# Altium footprint library Molex Microfit.PCBLIB: 194 footprints (part 12 of 13)
Each footprint in its own frame and in the unit in brackets; x right, y up, seen from the top. Pads: shape width x height; smd on the part's side, far side on the other; paste and mask are expansions set on the pad; w line width, h text height; cw(c..) or ccw(c..) is an arc to the next point about the centre after c.
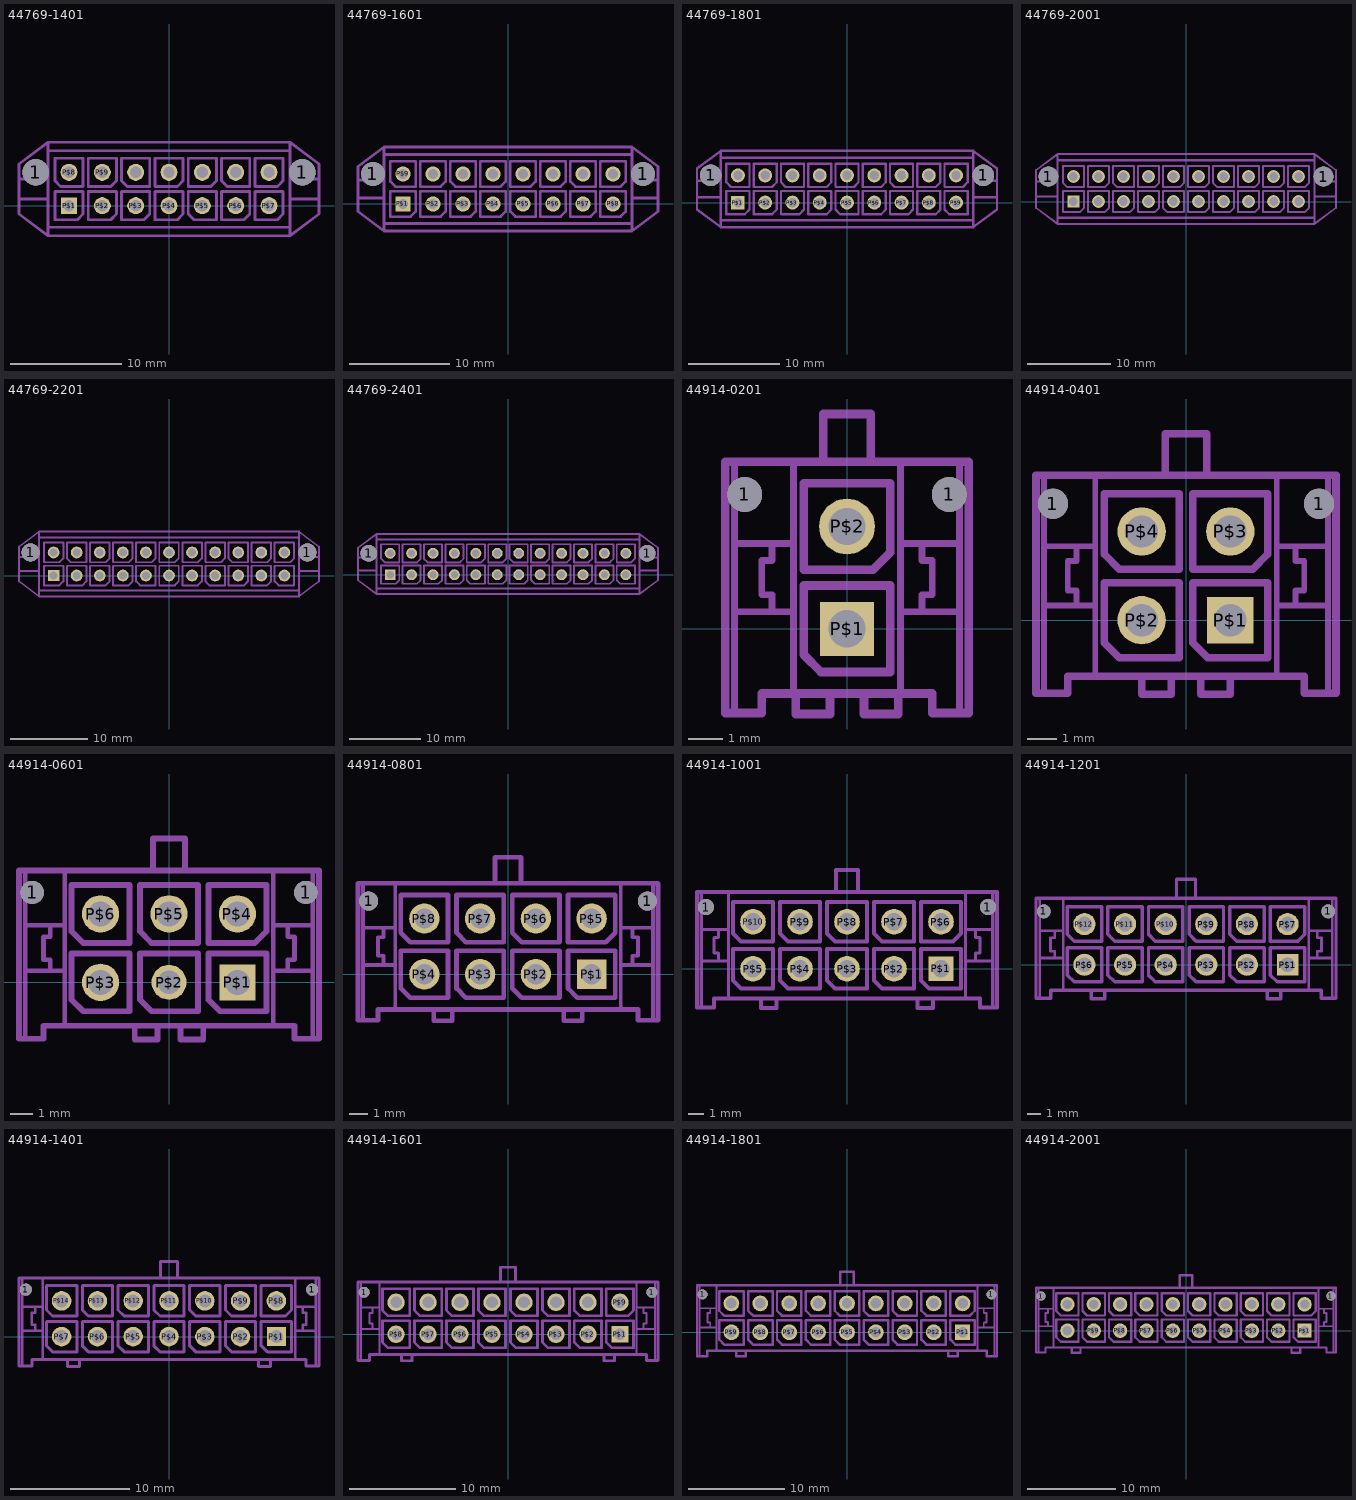
[diagram p11: the footprints below, top view; thin cyan lines are the x and y axes]

## 44769-1401 [mm]
pads (16):
  round 2.36 hole 2.36 unplated: 1(-12,3) 1(12,3)
  rect 1.482x1.482 / inner rect 1.524x1.524 / far side rect 1.482x1.482 hole 1.02: P$1(-9,0)
  round 1.53 / inner round 1.524 / far side round 1.53 hole 1.02: P$2(-6,0) P$3(-3,0) P$4(0,0) P$5(3,0) P$6(6,0) P$7(9,0) P$8(-9,3) P$9(-6,3) P$10(-3,3) P$11(0,3) P$12(3,3) P$13(6,3) P$14(9,3)
Mechanical 22:
  lines w0.254: -13.5,0.6 -10.9,0.6 ; -13.5,0.6 -13.5,2.4 ; -13.5,0.6 -13.5,-0.75 -10.9,-2.7 ; -13.5,2.4 -10.9,2.4 ; -13.5,2.4 -13.5,3.75 -10.9,5.7 ; -10.9,-2.7 -10.9,-1.95 ; -10.9,-2.7 10.9,-2.7 ; -10.9,-1.95 10.9,-1.95 ; -10.9,-1.95 -10.9,0.6 ; -10.9,0.6 -10.9,2.4 ; -10.9,2.4 -10.9,4.95 ; -10.9,4.95 10.9,4.95 ; -10.9,4.95 -10.9,5.7 ; -10.9,5.7 10.9,5.7 ; 10.9,-2.7 10.9,-1.95 ; 10.9,-2.7 13.5,-0.75 13.5,0.6 ; 10.9,-1.95 10.9,0.6 ; 10.9,0.6 13.5,0.6 ; 10.9,0.6 10.9,2.4 ; 10.9,2.4 13.5,2.4 ; 10.9,2.4 10.9,4.95 ; 10.9,4.95 10.9,5.7 ; 10.9,5.7 13.5,3.75 13.5,2.4 ; 13.5,0.6 13.5,2.4 ; -10.27,-1.27 -8.238,-1.27 -7.73,-0.762 -7.73,1.27 -10.27,1.27 -10.27,-1.27 ; -10.27,2.238 -9.762,1.73 -7.73,1.73 -7.73,4.27 -10.27,4.27 -10.27,2.238 ; -7.27,-1.27 -5.238,-1.27 -4.73,-0.762 -4.73,1.27 -7.27,1.27 -7.27,-1.27 ; -7.27,1.73 -5.238,1.73 -4.73,2.238 -4.73,4.27 -7.27,4.27 -7.27,1.73 ; -4.27,-1.27 -2.238,-1.27 -1.73,-0.762 -1.73,1.27 -4.27,1.27 -4.27,-1.27 ; -4.27,2.238 -3.762,1.73 -1.73,1.73 -1.73,4.27 -4.27,4.27 -4.27,2.238 ; -1.27,-1.27 0.762,-1.27 1.27,-0.762 1.27,1.27 -1.27,1.27 -1.27,-1.27 ; -1.27,1.73 0.762,1.73 1.27,2.238 1.27,4.27 -1.27,4.27 -1.27,1.73 ; 1.73,-0.762 2.238,-1.27 4.27,-1.27 4.27,1.27 1.73,1.27 1.73,-0.762 ; 1.73,1.73 3.762,1.73 4.27,2.238 4.27,4.27 1.73,4.27 1.73,1.73 ; 4.73,-1.27 6.762,-1.27 7.27,-0.762 7.27,1.27 4.73,1.27 4.73,-1.27 ; 4.73,2.238 5.238,1.73 7.27,1.73 7.27,4.27 4.73,4.27 4.73,2.238 ; 7.73,-1.27 9.762,-1.27 10.27,-0.762 10.27,1.27 7.73,1.27 7.73,-1.27 ; 7.73,1.73 9.762,1.73 10.27,2.238 10.27,4.27 7.73,4.27 7.73,1.73

## 44769-1601 [mm]
pads (18):
  round 2.36 hole 2.36 unplated: 1(-13.5,3) 1(13.5,3)
  rect 1.482x1.482 / inner rect 1.524x1.524 / far side rect 1.482x1.482 hole 1.02: P$1(-10.5,0)
  round 1.53 / inner round 1.524 / far side round 1.53 hole 1.02: P$2(-7.5,0) P$3(-4.5,0) P$4(-1.5,0) P$5(1.5,0) P$6(4.5,0) P$7(7.5,0) P$8(10.5,0) P$9(-10.5,3) P$10(-7.5,3) P$11(-4.5,3) P$12(-1.5,3) P$13(1.5,3) P$14(4.5,3) P$15(7.5,3) P$16(10.5,3)
Mechanical 22:
  lines w0.254: -15,0.6 -12.4,0.6 ; -15,0.6 -15,2.4 ; -15,0.6 -15,-0.75 -12.4,-2.7 ; -15,2.4 -12.4,2.4 ; -15,2.4 -15,3.75 -12.4,5.7 ; -12.4,-2.7 -12.4,-1.95 ; -12.4,-2.7 12.4,-2.7 ; -12.4,-1.95 12.4,-1.95 ; -12.4,-1.95 -12.4,0.6 ; -12.4,0.6 -12.4,2.4 ; -12.4,2.4 -12.4,4.95 ; -12.4,4.95 12.4,4.95 ; -12.4,4.95 -12.4,5.7 ; -12.4,5.7 12.4,5.7 ; 12.4,-2.7 12.4,-1.95 ; 12.4,-2.7 15,-0.75 15,0.6 ; 12.4,-1.95 12.4,0.6 ; 12.4,0.6 15,0.6 ; 12.4,0.6 12.4,2.4 ; 12.4,2.4 15,2.4 ; 12.4,2.4 12.4,4.95 ; 12.4,4.95 12.4,5.7 ; 12.4,5.7 15,3.75 15,2.4 ; 15,0.6 15,2.4 ; -11.77,-1.27 -9.738,-1.27 -9.23,-0.762 -9.23,1.27 -11.77,1.27 -11.77,-1.27 ; -11.77,2.238 -11.262,1.73 -9.23,1.73 -9.23,4.27 -11.77,4.27 -11.77,2.238 ; -8.77,-1.27 -6.738,-1.27 -6.23,-0.762 -6.23,1.27 -8.77,1.27 -8.77,-1.27 ; -8.77,1.73 -6.738,1.73 -6.23,2.238 -6.23,4.27 -8.77,4.27 -8.77,1.73 ; -5.77,-1.27 -3.738,-1.27 -3.23,-0.762 -3.23,1.27 -5.77,1.27 -5.77,-1.27 ; -5.77,2.238 -5.262,1.73 -3.23,1.73 -3.23,4.27 -5.77,4.27 -5.77,2.238 ; -2.77,-1.27 -0.738,-1.27 -0.23,-0.762 -0.23,1.27 -2.77,1.27 -2.77,-1.27 ; -2.77,1.73 -0.738,1.73 -0.23,2.238 -0.23,4.27 -2.77,4.27 -2.77,1.73 ; 0.23,-0.762 0.738,-1.27 2.77,-1.27 2.77,1.27 0.23,1.27 0.23,-0.762 ; 0.23,1.73 2.262,1.73 2.77,2.238 2.77,4.27 0.23,4.27 0.23,1.73 ; 3.23,-1.27 5.262,-1.27 5.77,-0.762 5.77,1.27 3.23,1.27 3.23,-1.27 ; 3.23,1.73 5.262,1.73 5.77,2.238 5.77,4.27 3.23,4.27 3.23,1.73 ; 6.23,-1.27 8.262,-1.27 8.77,-0.762 8.77,1.27 6.23,1.27 6.23,-1.27 ; 6.23,2.238 6.738,1.73 8.77,1.73 8.77,4.27 6.23,4.27 6.23,2.238 ; 9.23,-1.27 11.262,-1.27 11.77,-0.762 11.77,1.27 9.23,1.27 9.23,-1.27 ; 9.23,1.73 11.262,1.73 11.77,2.238 11.77,4.27 9.23,4.27 9.23,1.73

## 44769-1801 [mm]
pads (20):
  round 2.36 hole 2.36 unplated: 1(-15,3) 1(15,3)
  rect 1.482x1.482 / inner rect 1.524x1.524 / far side rect 1.482x1.482 hole 1.02: P$1(-12,0)
  round 1.53 / inner round 1.524 / far side round 1.53 hole 1.02: P$2(-9,0) P$3(-6,0) P$4(-3,0) P$5(0,0) P$6(3,0) P$7(6,0) P$8(9,0) P$9(12,0) P$10(-12,3) P$11(-9,3) P$12(-6,3) P$13(-3,3) P$14(0,3) P$15(3,3) P$16(6,3) P$17(9,3) P$18(12,3)
Mechanical 22:
  lines w0.254: -16.5,0.6 -13.9,0.6 ; -16.5,0.6 -16.5,2.4 ; -16.5,0.6 -16.5,-0.75 -13.9,-2.7 ; -16.5,2.4 -13.9,2.4 ; -16.5,2.4 -16.5,3.75 -13.9,5.7 ; -13.9,-2.7 -13.9,-1.95 ; -13.9,-2.7 13.9,-2.7 ; -13.9,-1.95 13.9,-1.95 ; -13.9,-1.95 -13.9,0.6 ; -13.9,0.6 -13.9,2.4 ; -13.9,2.4 -13.9,4.95 ; -13.9,4.95 13.9,4.95 ; -13.9,4.95 -13.9,5.7 ; -13.9,5.7 13.9,5.7 ; 13.9,-2.7 13.9,-1.95 ; 13.9,-2.7 16.5,-0.75 16.5,0.6 ; 13.9,-1.95 13.9,0.6 ; 13.9,0.6 16.5,0.6 ; 13.9,0.6 13.9,2.4 ; 13.9,2.4 16.5,2.4 ; 13.9,2.4 13.9,4.95 ; 13.9,4.95 13.9,5.7 ; 13.9,5.7 16.5,3.75 16.5,2.4 ; 16.5,0.6 16.5,2.4 ; -13.27,-1.27 -11.238,-1.27 -10.73,-0.762 -10.73,1.27 -13.27,1.27 -13.27,-1.27 ; -13.27,2.238 -12.762,1.73 -10.73,1.73 -10.73,4.27 -13.27,4.27 -13.27,2.238 ; -10.27,-1.27 -8.238,-1.27 -7.73,-0.762 -7.73,1.27 -10.27,1.27 -10.27,-1.27 ; -10.27,1.73 -8.238,1.73 -7.73,2.238 -7.73,4.27 -10.27,4.27 -10.27,1.73 ; -7.27,-1.27 -5.238,-1.27 -4.73,-0.762 -4.73,1.27 -7.27,1.27 -7.27,-1.27 ; -7.27,2.238 -6.762,1.73 -4.73,1.73 -4.73,4.27 -7.27,4.27 -7.27,2.238 ; -4.27,-1.27 -2.238,-1.27 -1.73,-0.762 -1.73,1.27 -4.27,1.27 -4.27,-1.27 ; -4.27,1.73 -2.238,1.73 -1.73,2.238 -1.73,4.27 -4.27,4.27 -4.27,1.73 ; -1.27,-0.762 -0.762,-1.27 1.27,-1.27 1.27,1.27 -1.27,1.27 -1.27,-0.762 ; -1.27,1.73 0.762,1.73 1.27,2.238 1.27,4.27 -1.27,4.27 -1.27,1.73 ; 1.73,-1.27 3.762,-1.27 4.27,-0.762 4.27,1.27 1.73,1.27 1.73,-1.27 ; 1.73,1.73 3.762,1.73 4.27,2.238 4.27,4.27 1.73,4.27 1.73,1.73 ; 4.73,-1.27 6.762,-1.27 7.27,-0.762 7.27,1.27 4.73,1.27 4.73,-1.27 ; 4.73,2.238 5.238,1.73 7.27,1.73 7.27,4.27 4.73,4.27 4.73,2.238 ; 7.73,-1.27 9.762,-1.27 10.27,-0.762 10.27,1.27 7.73,1.27 7.73,-1.27 ; 7.73,1.73 9.762,1.73 10.27,2.238 10.27,4.27 7.73,4.27 7.73,1.73 ; 10.73,-0.762 11.238,-1.27 13.27,-1.27 13.27,1.27 10.73,1.27 10.73,-0.762 ; 10.73,1.73 12.762,1.73 13.27,2.238 13.27,4.27 10.73,4.27 10.73,1.73

## 44769-2001 [mm]
pads (22):
  round 2.36 hole 2.36 unplated: 1(-16.5,3) 1(16.5,3)
  rect 1.482x1.482 / inner rect 1.524x1.524 / far side rect 1.482x1.482 hole 1.02: P$1(-13.5,0)
  round 1.53 / inner round 1.524 / far side round 1.53 hole 1.02: P$2(-10.5,0) P$3(-7.5,0) P$4(-4.5,0) P$5(-1.5,0) P$6(1.5,0) P$7(4.5,0) P$8(7.5,0) P$9(10.5,0) P$10(13.5,0) P$11(-13.5,3) P$12(-10.5,3) P$13(-7.5,3) P$14(-4.5,3) P$15(-1.5,3) P$16(1.5,3) P$17(4.5,3) P$18(7.5,3) P$19(10.5,3) P$20(13.5,3)
Mechanical 22:
  lines w0.254: -18,0.6 -15.4,0.6 ; -18,0.6 -18,2.4 ; -18,0.6 -18,-0.75 -15.4,-2.7 ; -18,2.4 -15.4,2.4 ; -18,2.4 -18,3.75 -15.4,5.7 ; -15.4,-2.7 -15.4,-1.95 ; -15.4,-2.7 15.4,-2.7 ; -15.4,-1.95 15.4,-1.95 ; -15.4,-1.95 -15.4,0.6 ; -15.4,0.6 -15.4,2.4 ; -15.4,2.4 -15.4,4.95 ; -15.4,4.95 15.4,4.95 ; -15.4,4.95 -15.4,5.7 ; -15.4,5.7 15.4,5.7 ; 15.4,-2.7 15.4,-1.95 ; 15.4,-2.7 18,-0.75 18,0.6 ; 15.4,-1.95 15.4,0.6 ; 15.4,0.6 18,0.6 ; 15.4,0.6 15.4,2.4 ; 15.4,2.4 18,2.4 ; 15.4,2.4 15.4,4.95 ; 15.4,4.95 15.4,5.7 ; 15.4,5.7 18,3.75 18,2.4 ; 18,0.6 18,2.4 ; -14.77,-1.27 -12.738,-1.27 -12.23,-0.762 -12.23,1.27 -14.77,1.27 -14.77,-1.27 ; -14.77,2.238 -14.262,1.73 -12.23,1.73 -12.23,4.27 -14.77,4.27 -14.77,2.238 ; -11.77,-1.27 -9.738,-1.27 -9.23,-0.762 -9.23,1.27 -11.77,1.27 -11.77,-1.27 ; -11.77,1.73 -9.738,1.73 -9.23,2.238 -9.23,4.27 -11.77,4.27 -11.77,1.73 ; -8.77,-1.27 -6.738,-1.27 -6.23,-0.762 -6.23,1.27 -8.77,1.27 -8.77,-1.27 ; -8.77,2.238 -8.262,1.73 -6.23,1.73 -6.23,4.27 -8.77,4.27 -8.77,2.238 ; -5.77,-1.27 -3.738,-1.27 -3.23,-0.762 -3.23,1.27 -5.77,1.27 -5.77,-1.27 ; -5.77,1.73 -3.738,1.73 -3.23,2.238 -3.23,4.27 -5.77,4.27 -5.77,1.73 ; -2.77,-0.762 -2.262,-1.27 -0.23,-1.27 -0.23,1.27 -2.77,1.27 -2.77,-0.762 ; -2.77,1.73 -0.738,1.73 -0.23,2.238 -0.23,4.27 -2.77,4.27 -2.77,1.73 ; 0.23,-1.27 2.262,-1.27 2.77,-0.762 2.77,1.27 0.23,1.27 0.23,-1.27 ; 0.23,1.73 2.262,1.73 2.77,2.238 2.77,4.27 0.23,4.27 0.23,1.73 ; 3.23,-1.27 5.262,-1.27 5.77,-0.762 5.77,1.27 3.23,1.27 3.23,-1.27 ; 3.23,2.238 3.738,1.73 5.77,1.73 5.77,4.27 3.23,4.27 3.23,2.238 ; 6.23,-1.27 8.262,-1.27 8.77,-0.762 8.77,1.27 6.23,1.27 6.23,-1.27 ; 6.23,1.73 8.262,1.73 8.77,2.238 8.77,4.27 6.23,4.27 6.23,1.73 ; 9.23,-1.27 11.262,-1.27 11.77,-0.762 11.77,1.27 9.23,1.27 9.23,-1.27 ; 9.23,1.73 11.262,1.73 11.77,2.238 11.77,4.27 9.23,4.27 9.23,1.73 ; 12.23,-1.27 14.262,-1.27 14.77,-0.762 14.77,1.27 12.23,1.27 12.23,-1.27 ; 12.23,1.73 14.262,1.73 14.77,2.238 14.77,4.27 12.23,4.27 12.23,1.73

## 44769-2201 [mm]
pads (24):
  round 2.36 hole 2.36 unplated: 1(-18,3) 1(18,3)
  rect 1.482x1.482 / inner rect 1.524x1.524 / far side rect 1.482x1.482 hole 1.02: P$1(-15,0)
  round 1.53 / inner round 1.524 / far side round 1.53 hole 1.02: P$2(-12,0) P$3(-9,0) P$4(-6,0) P$5(-3,0) P$6(0,0) P$7(3,0) P$8(6,0) P$9(9,0) P$10(12,0) P$11(15,0) P$12(-15,3) P$13(-12,3) P$14(-9,3) P$15(-6,3) P$16(-3,3) P$17(0,3) P$18(3,3) P$19(6,3) P$20(9,3) P$21(12,3) P$22(15,3)
Mechanical 22:
  lines w0.254: -19.5,0.6 -16.9,0.6 ; -19.5,0.6 -19.5,2.4 ; -19.5,0.6 -19.5,-0.75 -16.9,-2.7 ; -19.5,2.4 -16.9,2.4 ; -19.5,2.4 -19.5,3.75 -16.9,5.7 ; -16.9,-2.7 -16.9,-1.95 ; -16.9,-2.7 16.9,-2.7 ; -16.9,-1.95 16.9,-1.95 ; -16.9,-1.95 -16.9,0.6 ; -16.9,0.6 -16.9,2.4 ; -16.9,2.4 -16.9,4.95 ; -16.9,4.95 16.9,4.95 ; -16.9,4.95 -16.9,5.7 ; -16.9,5.7 16.9,5.7 ; 16.9,-2.7 16.9,-1.95 ; 16.9,-2.7 19.5,-0.75 19.5,0.6 ; 16.9,-1.95 16.9,0.6 ; 16.9,0.6 19.5,0.6 ; 16.9,0.6 16.9,2.4 ; 16.9,2.4 19.5,2.4 ; 16.9,2.4 16.9,4.95 ; 16.9,4.95 16.9,5.7 ; 16.9,5.7 19.5,3.75 19.5,2.4 ; 19.5,0.6 19.5,2.4 ; -16.27,-1.27 -14.238,-1.27 -13.73,-0.762 -13.73,1.27 -16.27,1.27 -16.27,-1.27 ; -16.27,1.73 -14.238,1.73 -13.73,2.238 -13.73,4.27 -16.27,4.27 -16.27,1.73 ; -13.27,-1.27 -11.238,-1.27 -10.73,-0.762 -10.73,1.27 -13.27,1.27 -13.27,-1.27 ; -13.27,2.238 -12.762,1.73 -10.73,1.73 -10.73,4.27 -13.27,4.27 -13.27,2.238 ; -10.27,-1.27 -8.238,-1.27 -7.73,-0.762 -7.73,1.27 -10.27,1.27 -10.27,-1.27 ; -10.27,1.73 -8.238,1.73 -7.73,2.238 -7.73,4.27 -10.27,4.27 -10.27,1.73 ; -7.27,-1.27 -5.238,-1.27 -4.73,-0.762 -4.73,1.27 -7.27,1.27 -7.27,-1.27 ; -7.27,1.73 -5.238,1.73 -4.73,2.238 -4.73,4.27 -7.27,4.27 -7.27,1.73 ; -4.27,-0.762 -3.762,-1.27 -1.73,-1.27 -1.73,1.27 -4.27,1.27 -4.27,-0.762 ; -4.27,1.73 -2.238,1.73 -1.73,2.238 -1.73,4.27 -4.27,4.27 -4.27,1.73 ; -1.27,-1.27 0.762,-1.27 1.27,-0.762 1.27,1.27 -1.27,1.27 -1.27,-1.27 ; -1.27,1.73 0.762,1.73 1.27,2.238 1.27,4.27 -1.27,4.27 -1.27,1.73 ; 1.73,-1.27 3.762,-1.27 4.27,-0.762 4.27,1.27 1.73,1.27 1.73,-1.27 ; 1.73,1.73 3.762,1.73 4.27,2.238 4.27,4.27 1.73,4.27 1.73,1.73 ; 4.73,-0.762 5.238,-1.27 7.27,-1.27 7.27,1.27 4.73,1.27 4.73,-0.762 ; 4.73,1.73 6.762,1.73 7.27,2.238 7.27,4.27 4.73,4.27 4.73,1.73 ; 7.73,-1.27 9.762,-1.27 10.27,-0.762 10.27,1.27 7.73,1.27 7.73,-1.27 ; 7.73,2.238 8.238,1.73 10.27,1.73 10.27,4.27 7.73,4.27 7.73,2.238 ; 10.73,-1.27 12.762,-1.27 13.27,-0.762 13.27,1.27 10.73,1.27 10.73,-1.27 ; 10.73,1.73 12.762,1.73 13.27,2.238 13.27,4.27 10.73,4.27 10.73,1.73 ; 13.73,-0.762 14.238,-1.27 16.27,-1.27 16.27,1.27 13.73,1.27 13.73,-0.762 ; 13.73,1.73 15.762,1.73 16.27,2.238 16.27,4.27 13.73,4.27 13.73,1.73

## 44769-2401 [mm]
pads (26):
  round 2.36 hole 2.36 unplated: 1(-19.5,3) 1(19.5,3)
  rect 1.482x1.482 / inner rect 1.524x1.524 / far side rect 1.482x1.482 hole 1.02: P$1(-16.5,0)
  round 1.53 / inner round 1.524 / far side round 1.53 hole 1.02: P$2(-13.5,0) P$3(-10.5,0) P$4(-7.5,0) P$5(-4.5,0) P$6(-1.5,0) P$7(1.5,0) P$8(4.5,0) P$9(7.5,0) P$10(10.5,0) P$11(13.5,0) P$12(16.5,0) P$13(-16.5,3) P$14(-13.5,3) P$15(-10.5,3) P$16(-7.5,3) P$17(-4.5,3) P$18(-1.5,3) P$19(1.5,3) P$20(4.5,3) P$21(7.5,3) P$22(10.5,3) P$23(13.5,3) P$24(16.5,3)
Mechanical 22:
  lines w0.254: -21,0.6 -18.4,0.6 ; -21,0.6 -21,2.4 ; -21,0.6 -21,-0.75 -18.4,-2.7 ; -21,2.4 -18.4,2.4 ; -21,2.4 -21,3.75 -18.4,5.7 ; -18.4,-2.7 -18.4,-1.95 ; -18.4,-2.7 18.4,-2.7 ; -18.4,-1.95 18.4,-1.95 ; -18.4,-1.95 -18.4,0.6 ; -18.4,0.6 -18.4,2.4 ; -18.4,2.4 -18.4,4.95 ; -18.4,4.95 18.4,4.95 ; -18.4,4.95 -18.4,5.7 ; -18.4,5.7 18.4,5.7 ; 18.4,-2.7 18.4,-1.95 ; 18.4,-2.7 21,-0.75 21,0.6 ; 18.4,-1.95 18.4,0.6 ; 18.4,0.6 21,0.6 ; 18.4,0.6 18.4,2.4 ; 18.4,2.4 21,2.4 ; 18.4,2.4 18.4,4.95 ; 18.4,4.95 18.4,5.7 ; 18.4,5.7 21,3.75 21,2.4 ; 21,0.6 21,2.4 ; -17.77,-1.27 -15.738,-1.27 -15.23,-0.762 -15.23,1.27 -17.77,1.27 -17.77,-1.27 ; -17.77,2.238 -17.262,1.73 -15.23,1.73 -15.23,4.27 -17.77,4.27 -17.77,2.238 ; -14.77,-1.27 -12.738,-1.27 -12.23,-0.762 -12.23,1.27 -14.77,1.27 -14.77,-1.27 ; -14.77,1.73 -12.738,1.73 -12.23,2.238 -12.23,4.27 -14.77,4.27 -14.77,1.73 ; -11.77,-1.27 -9.738,-1.27 -9.23,-0.762 -9.23,1.27 -11.77,1.27 -11.77,-1.27 ; -11.77,2.238 -11.262,1.73 -9.23,1.73 -9.23,4.27 -11.77,4.27 -11.77,2.238 ; -8.77,-1.27 -6.738,-1.27 -6.23,-0.762 -6.23,1.27 -8.77,1.27 -8.77,-1.27 ; -8.77,1.73 -6.738,1.73 -6.23,2.238 -6.23,4.27 -8.77,4.27 -8.77,1.73 ; -5.77,-0.762 -5.262,-1.27 -3.23,-1.27 -3.23,1.27 -5.77,1.27 -5.77,-0.762 ; -5.77,1.73 -3.738,1.73 -3.23,2.238 -3.23,4.27 -5.77,4.27 -5.77,1.73 ; -2.77,-1.27 -0.738,-1.27 -0.23,-0.762 -0.23,1.27 -2.77,1.27 -2.77,-1.27 ; -2.77,1.73 -0.738,1.73 -0.23,2.238 -0.23,4.27 -2.77,4.27 -2.77,1.73 ; 0.23,-1.27 2.262,-1.27 2.77,-0.762 2.77,1.27 0.23,1.27 0.23,-1.27 ; 0.23,2.238 0.738,1.73 2.77,1.73 2.77,4.27 0.23,4.27 0.23,2.238 ; 3.23,-0.762 3.738,-1.27 5.77,-1.27 5.77,1.27 3.23,1.27 3.23,-0.762 ; 3.23,1.73 5.262,1.73 5.77,2.238 5.77,4.27 3.23,4.27 3.23,1.73 ; 6.23,-1.27 8.262,-1.27 8.77,-0.762 8.77,1.27 6.23,1.27 6.23,-1.27 ; 6.23,1.73 8.262,1.73 8.77,2.238 8.77,4.27 6.23,4.27 6.23,1.73 ; 9.23,-1.27 11.262,-1.27 11.77,-0.762 11.77,1.27 9.23,1.27 9.23,-1.27 ; 9.23,1.73 11.262,1.73 11.77,2.238 11.77,4.27 9.23,4.27 9.23,1.73 ; 12.23,-1.27 14.262,-1.27 14.77,-0.762 14.77,1.27 12.23,1.27 12.23,-1.27 ; 12.23,1.73 14.262,1.73 14.77,2.238 14.77,4.27 12.23,4.27 12.23,1.73 ; 15.23,-0.762 15.738,-1.27 17.77,-1.27 17.77,1.27 15.23,1.27 15.23,-0.762 ; 15.23,1.73 17.262,1.73 17.77,2.238 17.77,4.27 15.23,4.27 15.23,1.73
3D body "447692401.stp": height 13.61, standoff -3.39, extent -21,-2.168 21,6.232

## 44914-0201 [mm]
pads (4):
  round 1.02 hole 1.02 unplated: 1(-3,3.94) 1(3,3.94)
  rect 1.583x1.583 / inner rect 1.524x1.524 / far side rect 1.583x1.583 hole 1.09: P$1(0,0)
  round 1.635 / inner round 1.524 / far side round 1.635 hole 1.09: P$2(0,3)
Mechanical 22:
  lines w0.2: -3.3,-2.47 -3.3,0.5 ; -3.3,4.9 -3.3,2.5 ; -1.57,-1.9 -1.57,0.5 ; -1.57,4.9 -1.57,2.5 ; 1.57,-1.9 1.57,0.5 ; 1.57,4.9 1.57,2.5 ; 3.3,-2.47 3.3,0.5 ; 3.3,4.9 3.3,2.5 ; -3.3,0.5 -2.2,0.5 ; -3.3,0.5 -3.3,2.5 ; -3.3,2.5 -2.2,2.5 ; -2.2,0.5 -2.2,1 -2.5,1 -2.5,2 -2.2,2 -2.2,2.5 ; -2.2,0.5 -1.57,0.5 ; -2.2,2.5 -1.57,2.5 ; -1.57,0.5 -1.57,2.5 ; 1.57,0.5 2.2,0.5 ; 1.57,0.5 1.57,2.5 ; 1.57,2.5 2.2,2.5 ; 2.2,0.5 2.2,1 2.5,1 2.5,2 2.2,2 2.2,2.5 ; 2.2,0.5 3.3,0.5 ; 2.2,2.5 3.3,2.5 ; 3.3,0.5 3.3,2.5
  lines w0.254: -1.5,-1.9 -1.5,-2.5 -0.5,-2.5 -0.5,-1.9 ; -1.5,-1.9 -1.57,-1.9 -2.5,-1.9 -2.5,-2.47 -3.3,-2.47 -3.575,-2.47 -3.575,4.9 -3.3,4.9 -1.57,4.9 -0.7,4.9 ; -1.5,-1.9 -0.5,-1.9 ; -0.7,4.9 -0.7,6.3 0.7,6.3 0.7,4.9 ; -0.7,4.9 0.7,4.9 ; -0.5,-1.9 0.5,-1.9 ; 0.5,-1.9 0.5,-2.5 1.5,-2.5 1.5,-1.9 ; 0.5,-1.9 1.5,-1.9 ; 0.7,4.9 1.57,4.9 3.3,4.9 3.575,4.9 3.575,-2.47 3.3,-2.47 2.5,-2.47 2.5,-1.9 1.57,-1.9 1.5,-1.9 ; -1.27,-0.762 -0.762,-1.27 1.27,-1.27 1.27,1.27 -1.27,1.27 -1.27,-0.762
Mechanical 23:
  lines w0.254: -1.27,1.73 0.762,1.73 1.27,2.238 1.27,4.27 -1.27,4.27 -1.27,1.73

## 44914-0401 [mm]
pads (6):
  round 1.02 hole 1.02 unplated: 1(-4.5,3.94) 1(4.5,3.94)
  rect 1.583x1.583 / inner rect 1.524x1.524 / far side rect 1.583x1.583 hole 1.09: P$1(1.5,0)
  round 1.635 / inner round 1.524 / far side round 1.635 hole 1.09: P$2(-1.5,0) P$3(1.5,3) P$4(-1.5,3)
Mechanical 22:
  lines w0.2: -4.8,-2.47 -4.8,0.5 ; -4.8,4.9 -4.8,2.5 ; -3.07,-1.9 -3.07,0.5 ; -3.07,4.9 -3.07,2.5 ; 3.07,-1.9 3.07,0.5 ; 3.07,4.9 3.07,2.5 ; 4.8,-2.47 4.8,0.5 ; 4.8,4.9 4.8,2.5 ; -4.8,0.5 -3.7,0.5 ; -4.8,0.5 -4.8,2.5 ; -4.8,2.5 -3.7,2.5 ; -3.7,0.5 -3.7,1 -4,1 -4,2 -3.7,2 -3.7,2.5 ; -3.7,0.5 -3.07,0.5 ; -3.7,2.5 -3.07,2.5 ; -3.07,0.5 -3.07,2.5 ; 3.07,0.5 3.7,0.5 ; 3.07,0.5 3.07,2.5 ; 3.07,2.5 3.7,2.5 ; 3.7,0.5 3.7,1 4,1 4,2 3.7,2 3.7,2.5 ; 3.7,0.5 4.8,0.5 ; 3.7,2.5 4.8,2.5 ; 4.8,0.5 4.8,2.5
  lines w0.254: -1.5,-1.9 -1.5,-2.5 -0.5,-2.5 -0.5,-1.9 ; -1.5,-1.9 -3.07,-1.9 -4,-1.9 -4,-2.47 -4.8,-2.47 -5.075,-2.47 -5.075,4.9 -4.8,4.9 -3.07,4.9 -0.7,4.9 ; -1.5,-1.9 -0.5,-1.9 ; -0.7,4.9 -0.7,6.3 0.7,6.3 0.7,4.9 ; -0.7,4.9 0.7,4.9 ; -0.5,-1.9 0.5,-1.9 ; 0.5,-1.9 0.5,-2.5 1.5,-2.5 1.5,-1.9 ; 0.5,-1.9 1.5,-1.9 ; 0.7,4.9 3.07,4.9 4.8,4.9 5.075,4.9 5.075,-2.47 4.8,-2.47 4,-2.47 4,-1.9 3.07,-1.9 1.5,-1.9 ; -2.77,-0.762 -2.262,-1.27 -0.23,-1.27 -0.23,1.27 -2.77,1.27 -2.77,-0.762 ; -2.77,2.238 -2.262,1.73 -0.23,1.73 -0.23,4.27 -2.77,4.27 -2.77,2.238 ; 0.23,-0.762 0.738,-1.27 2.77,-1.27 2.77,1.27 0.23,1.27 0.23,-0.762
Mechanical 23:
  lines w0.254: 0.23,1.73 2.262,1.73 2.77,2.238 2.77,4.27 0.23,4.27 0.23,1.73

## 44914-0601 [mm]
pads (8):
  round 1.02 hole 1.02 unplated: 1(-6,3.94) 1(6,3.94)
  rect 1.583x1.583 / inner rect 1.524x1.524 / far side rect 1.583x1.583 hole 1.09: P$1(3,0)
  round 1.53 / inner round 1.524 / far side round 1.53 hole 1.02: P$2(0,0)
  round 1.635 / inner round 1.524 / far side round 1.635 hole 1.09: P$3(-3,0) P$4(3,3) P$5(0,3) P$6(-3,3)
Mechanical 22:
  lines w0.2: -6.3,-2.47 -6.3,-1.7 -6.3,-1 -6.3,0.5 ; -6.3,4.9 -6.3,4 -6.3,2.5 ; -4.57,-1.9 -4.57,-1 -4.57,0.5 ; -4.57,4.9 -4.57,4 -4.57,2.5 ; 4.57,-1.9 4.57,-1 4.57,0.5 ; 4.57,4.9 4.57,4 4.57,2.5 ; 6.3,-2.47 6.3,-1.7 6.3,-1 6.3,0.5 ; 6.3,4.9 6.3,4 6.3,2.5 ; -6.3,0.5 -5.2,0.5 ; -6.3,0.5 -6.3,2.5 ; -6.3,2.5 -5.2,2.5 ; -5.2,0.5 -5.2,1 -5.5,1 -5.5,2 -5.2,2 -5.2,2.5 ; -5.2,0.5 -4.57,0.5 ; -5.2,2.5 -4.57,2.5 ; -4.57,0.5 -4.57,2.5 ; 4.57,0.5 5.2,0.5 ; 4.57,0.5 4.57,2.5 ; 4.57,2.5 5.2,2.5 ; 5.2,0.5 5.2,1 5.5,1 5.5,2 5.2,2 5.2,2.5 ; 5.2,0.5 6.3,0.5 ; 5.2,2.5 6.3,2.5 ; 6.3,0.5 6.3,2.5
  lines w0.254: -1.5,-1.9 -1.5,-2.5 -0.5,-2.5 -0.5,-1.9 ; -1.5,-1.9 -4.57,-1.9 -5.5,-1.9 -5.5,-2.47 -6.3,-2.47 -6.575,-2.47 -6.575,4.9 -6.3,4.9 -4.57,4.9 -0.7,4.9 ; -1.5,-1.9 -0.5,-1.9 ; -0.7,4.9 -0.7,6.3 0.7,6.3 0.7,4.9 ; -0.7,4.9 0.7,4.9 ; -0.5,-1.9 0.5,-1.9 ; 0.5,-1.9 0.5,-2.5 1.5,-2.5 1.5,-1.9 ; 0.5,-1.9 1.5,-1.9 ; 0.7,4.9 4.57,4.9 6.3,4.9 6.575,4.9 6.575,-2.47 6.3,-2.47 5.5,-2.47 5.5,-1.9 4.57,-1.9 1.5,-1.9 ; -4.27,-0.762 -3.762,-1.27 -1.73,-1.27 -1.73,1.27 -4.27,1.27 -4.27,-0.762 ; -4.27,2.238 -3.762,1.73 -1.73,1.73 -1.73,4.27 -4.27,4.27 -4.27,2.238 ; -1.27,-0.762 -0.762,-1.27 1.27,-1.27 1.27,1.27 -1.27,1.27 -1.27,-0.762 ; -1.27,2.238 -0.762,1.73 1.27,1.73 1.27,4.27 -1.27,4.27 -1.27,2.238 ; 1.73,-0.762 2.238,-1.27 4.27,-1.27 4.27,1.27 1.73,1.27 1.73,-0.762
Mechanical 23:
  lines w0.254: 1.73,1.73 3.762,1.73 4.27,2.238 4.27,4.27 1.73,4.27 1.73,1.73
3D body "449140601.stp": height 9.95, standoff -3.14, extent -6.575,-2.446 6.575,6.354

## 44914-0801 [mm]
pads (10):
  round 1.02 hole 1.02 unplated: 1(-7.5,3.94) 1(7.5,3.94)
  rect 1.583x1.583 / inner rect 1.524x1.524 / far side rect 1.583x1.583 hole 1.09: P$1(4.5,0)
  round 1.635 / inner round 1.524 / far side round 1.635 hole 1.09: P$2(1.5,0) P$3(-1.5,0) P$4(-4.5,0) P$5(4.5,3) P$6(1.5,3) P$7(-1.5,3) P$8(-4.5,3)
Mechanical 22:
  lines w0.2: -7.8,-2.47 -7.8,0.5 ; -7.8,4.9 -7.8,2.5 ; -6.07,-1.9 -6.07,0.5 ; -6.07,4.9 -6.07,2.5 ; 6.07,-1.9 6.07,0.5 ; 6.07,4.9 6.07,2.5 ; 7.8,-2.47 7.8,0.5 ; 7.8,4.9 7.8,2.5 ; -7.8,0.5 -7.8,2.5 ; -7.8,0.5 -6.7,0.5 ; -7.8,2.5 -6.7,2.5 ; -6.7,0.5 -6.07,0.5 ; -6.7,0.5 -6.7,1 -7,1 -7,2 -6.7,2 -6.7,2.5 ; -6.7,2.5 -6.07,2.5 ; -6.07,0.5 -6.07,2.5 ; 6.07,0.5 6.07,2.5 ; 6.07,0.5 6.7,0.5 ; 6.07,2.5 6.7,2.5 ; 6.7,0.5 7.8,0.5 ; 6.7,0.5 6.7,1 7,1 7,2 6.7,2 6.7,2.5 ; 6.7,2.5 7.8,2.5 ; 7.8,0.5 7.8,2.5
  lines w0.254: -4,-1.9 -3,-1.9 ; -4,-1.9 -6.07,-1.9 -7,-1.9 -7,-2.47 -7.8,-2.47 -8.075,-2.47 -8.075,4.9 -7.8,4.9 -6.07,4.9 -0.7,4.9 ; -4,-1.9 -4,-2.5 -3,-2.5 -3,-1.9 ; -3,-1.9 3,-1.9 ; -0.7,4.9 0.7,4.9 ; -0.7,4.9 -0.7,6.3 0.7,6.3 0.7,4.9 ; 0.7,4.9 6.07,4.9 7.8,4.9 8.075,4.9 8.075,-2.47 7.8,-2.47 7,-2.47 7,-1.9 6.07,-1.9 4,-1.9 ; 3,-1.9 4,-1.9 ; 3,-1.9 3,-2.5 4,-2.5 4,-1.9 ; -5.77,-0.762 -5.77,1.27 -3.23,1.27 -3.23,-1.27 -5.262,-1.27 -5.77,-0.762 ; -5.77,2.238 -5.77,4.27 -3.23,4.27 -3.23,1.73 -5.262,1.73 -5.77,2.238 ; -2.77,-0.762 -2.77,1.27 -0.23,1.27 -0.23,-1.27 -2.262,-1.27 -2.77,-0.762 ; -2.77,2.238 -2.77,4.27 -0.23,4.27 -0.23,1.73 -2.262,1.73 -2.77,2.238 ; 0.23,-0.762 0.23,1.27 2.77,1.27 2.77,-1.27 0.738,-1.27 0.23,-0.762 ; 0.23,2.238 0.23,4.27 2.77,4.27 2.77,1.73 0.738,1.73 0.23,2.238 ; 3.23,-0.762 3.23,1.27 5.77,1.27 5.77,-1.27 3.738,-1.27 3.23,-0.762
Mechanical 23:
  lines w0.254: 3.23,1.73 3.23,4.27 5.77,4.27 5.77,2.238 5.262,1.73 3.23,1.73

## 44914-1001 [mm]
pads (12):
  round 1.02 hole 1.02 unplated: 1(-9,3.94) 1(9,3.94)
  rect 1.583x1.583 / inner rect 1.524x1.524 / far side rect 1.583x1.583 hole 1.09: P$1(6,0)
  round 1.635 / inner round 1.524 / far side round 1.635 hole 1.09: P$2(3,0) P$3(0,0) P$4(-3,0) P$5(-6,0) P$6(6,3) P$7(3,3) P$8(0,3) P$9(-3,3) P$10(-6,3)
Mechanical 22:
  lines w0.2: -9.3,-2.47 -9.3,0.5 ; -9.3,4.9 -9.3,2.5 ; -7.57,-1.9 -7.57,0.5 ; -7.57,4.9 -7.57,2.5 ; 7.57,-1.9 7.57,0.5 ; 7.57,4.9 7.57,2.5 ; 9.3,-2.47 9.3,0.5 ; 9.3,4.9 9.3,2.5 ; -9.3,0.5 -9.3,2.5 ; -9.3,0.5 -8.2,0.5 ; -9.3,2.5 -8.2,2.5 ; -8.2,0.5 -7.57,0.5 ; -8.2,0.5 -8.2,1 -8.5,1 -8.5,2 -8.2,2 -8.2,2.5 ; -8.2,2.5 -7.57,2.5 ; -7.57,0.5 -7.57,2.5 ; 7.57,0.5 7.57,2.5 ; 7.57,0.5 8.2,0.5 ; 7.57,2.5 8.2,2.5 ; 8.2,0.5 9.3,0.5 ; 8.2,0.5 8.2,1 8.5,1 8.5,2 8.2,2 8.2,2.5 ; 8.2,2.5 9.3,2.5 ; 9.3,0.5 9.3,2.5
  lines w0.254: -5.5,-1.9 -4.5,-1.9 ; -5.5,-1.9 -7.57,-1.9 -8.5,-1.9 -8.5,-2.47 -9.3,-2.47 -9.575,-2.47 -9.575,4.9 -9.3,4.9 -7.57,4.9 -0.7,4.9 ; -5.5,-1.9 -5.5,-2.5 -4.5,-2.5 -4.5,-1.9 ; -4.5,-1.9 4.5,-1.9 ; -0.7,4.9 0.7,4.9 ; -0.7,4.9 -0.7,6.3 0.7,6.3 0.7,4.9 ; 0.7,4.9 7.57,4.9 9.3,4.9 9.575,4.9 9.575,-2.47 9.3,-2.47 8.5,-2.47 8.5,-1.9 7.57,-1.9 5.5,-1.9 ; 4.5,-1.9 5.5,-1.9 ; 4.5,-1.9 4.5,-2.5 5.5,-2.5 5.5,-1.9 ; -7.27,-0.762 -7.27,1.27 -4.73,1.27 -4.73,-1.27 -6.762,-1.27 -7.27,-0.762 ; -7.27,2.238 -7.27,4.27 -4.73,4.27 -4.73,1.73 -6.762,1.73 -7.27,2.238 ; -4.27,-0.762 -4.27,1.27 -1.73,1.27 -1.73,-1.27 -3.762,-1.27 -4.27,-0.762 ; -4.27,2.238 -4.27,4.27 -1.73,4.27 -1.73,1.73 -3.762,1.73 -4.27,2.238 ; -1.27,-0.762 -1.27,1.27 1.27,1.27 1.27,-1.27 -0.762,-1.27 -1.27,-0.762 ; -1.27,2.238 -1.27,4.27 1.27,4.27 1.27,1.73 -0.762,1.73 -1.27,2.238 ; 1.73,-0.762 1.73,1.27 4.27,1.27 4.27,-1.27 2.238,-1.27 1.73,-0.762 ; 1.73,2.238 1.73,4.27 4.27,4.27 4.27,1.73 2.238,1.73 1.73,2.238 ; 4.73,-0.762 4.73,1.27 7.27,1.27 7.27,-1.27 5.238,-1.27 4.73,-0.762
Mechanical 23:
  lines w0.254: 4.73,1.73 4.73,4.27 7.27,4.27 7.27,2.238 6.762,1.73 4.73,1.73

## 44914-1201 [mm]
pads (14):
  round 1.02 hole 1.02 unplated: 1(-10.5,3.94) 1(10.5,3.94)
  rect 1.583x1.583 / inner rect 1.524x1.524 / far side rect 1.583x1.583 hole 1.09: P$1(7.5,0)
  round 1.635 / inner round 1.524 / far side round 1.635 hole 1.09: P$2(4.5,0) P$3(1.5,0) P$4(-1.5,0) P$5(-4.5,0) P$6(-7.5,0) P$7(7.5,3) P$8(4.5,3) P$9(1.5,3) P$10(-1.5,3) P$11(-4.5,3) P$12(-7.5,3)
Mechanical 22:
  lines w0.2: -10.8,-2.47 -10.8,0.5 ; -10.8,4.9 -10.8,2.5 ; -9.07,-1.9 -9.07,0.5 ; -9.07,4.9 -9.07,2.5 ; 9.07,-1.9 9.07,0.5 ; 9.07,4.9 9.07,2.5 ; 10.8,-2.47 10.8,0.5 ; 10.8,4.9 10.8,2.5 ; -10.8,0.5 -10.8,2.5 ; -10.8,0.5 -9.7,0.5 ; -10.8,2.5 -9.7,2.5 ; -9.7,0.5 -9.07,0.5 ; -9.7,0.5 -9.7,1 -10,1 -10,2 -9.7,2 -9.7,2.5 ; -9.7,2.5 -9.07,2.5 ; -9.07,0.5 -9.07,2.5 ; 9.07,0.5 9.07,2.5 ; 9.07,0.5 9.7,0.5 ; 9.07,2.5 9.7,2.5 ; 9.7,0.5 10.8,0.5 ; 9.7,0.5 9.7,1 10,1 10,2 9.7,2 9.7,2.5 ; 9.7,2.5 10.8,2.5 ; 10.8,0.5 10.8,2.5
  lines w0.254: -7,-1.9 -6,-1.9 ; -7,-1.9 -9.07,-1.9 -10,-1.9 -10,-2.47 -10.8,-2.47 -11.075,-2.47 -11.075,4.9 -10.8,4.9 -9.07,4.9 -0.7,4.9 ; -7,-1.9 -7,-2.5 -6,-2.5 -6,-1.9 ; -6,-1.9 6,-1.9 ; -0.7,4.9 0.7,4.9 ; -0.7,4.9 -0.7,6.3 0.7,6.3 0.7,4.9 ; 0.7,4.9 9.07,4.9 10.8,4.9 11.075,4.9 11.075,-2.47 10.8,-2.47 10,-2.47 10,-1.9 9.07,-1.9 7,-1.9 ; 6,-1.9 7,-1.9 ; 6,-1.9 6,-2.5 7,-2.5 7,-1.9 ; -8.77,-0.762 -8.77,1.27 -6.23,1.27 -6.23,-1.27 -8.262,-1.27 -8.77,-0.762 ; -8.77,2.238 -8.77,4.27 -6.23,4.27 -6.23,1.73 -8.262,1.73 -8.77,2.238 ; -5.77,-0.762 -5.77,1.27 -3.23,1.27 -3.23,-1.27 -5.262,-1.27 -5.77,-0.762 ; -5.77,2.238 -5.77,4.27 -3.23,4.27 -3.23,1.73 -5.262,1.73 -5.77,2.238 ; -2.77,-0.762 -2.77,1.27 -0.23,1.27 -0.23,-1.27 -2.262,-1.27 -2.77,-0.762 ; -2.77,2.238 -2.77,4.27 -0.23,4.27 -0.23,1.73 -2.262,1.73 -2.77,2.238 ; 0.23,-0.762 0.23,1.27 2.77,1.27 2.77,-1.27 0.738,-1.27 0.23,-0.762 ; 0.23,2.238 0.23,4.27 2.77,4.27 2.77,1.73 0.738,1.73 0.23,2.238 ; 3.23,-0.762 3.23,1.27 5.77,1.27 5.77,-1.27 3.738,-1.27 3.23,-0.762 ; 3.23,2.238 3.23,4.27 5.77,4.27 5.77,1.73 3.738,1.73 3.23,2.238 ; 6.23,-0.762 6.23,1.27 8.77,1.27 8.77,-1.27 6.738,-1.27 6.23,-0.762
Mechanical 23:
  lines w0.254: 6.23,1.73 6.23,4.27 8.77,4.27 8.77,2.238 8.262,1.73 6.23,1.73

## 44914-1401 [mm]
pads (16):
  round 1.02 hole 1.02 unplated: 1(-12,3.94) 1(12,3.94)
  rect 1.583x1.583 / inner rect 1.524x1.524 / far side rect 1.583x1.583 hole 1.09: P$1(9,0)
  round 1.635 / inner round 1.524 / far side round 1.635 hole 1.09: P$2(6,0) P$3(3,0) P$4(0,0) P$5(-3,0) P$6(-6,0) P$7(-9,0) P$8(9,3) P$9(6,3) P$10(3,3) P$11(0,3) P$12(-3,3) P$13(-6,3) P$14(-9,3)
Mechanical 22:
  lines w0.2: -12.3,-2.47 -12.3,0.5 ; -12.3,4.9 -12.3,2.5 ; -10.57,-1.9 -10.57,0.5 ; -10.57,4.9 -10.57,2.5 ; 10.57,-1.9 10.57,0.5 ; 10.57,4.9 10.57,2.5 ; 12.3,-2.47 12.3,0.5 ; 12.3,4.9 12.3,2.5 ; -12.3,0.5 -12.3,2.5 ; -12.3,0.5 -11.2,0.5 ; -12.3,2.5 -11.2,2.5 ; -11.2,0.5 -10.57,0.5 ; -11.2,0.5 -11.2,1 -11.5,1 -11.5,2 -11.2,2 -11.2,2.5 ; -11.2,2.5 -10.57,2.5 ; -10.57,0.5 -10.57,2.5 ; 10.57,0.5 10.57,2.5 ; 10.57,0.5 11.2,0.5 ; 10.57,2.5 11.2,2.5 ; 11.2,0.5 12.3,0.5 ; 11.2,0.5 11.2,1 11.5,1 11.5,2 11.2,2 11.2,2.5 ; 11.2,2.5 12.3,2.5 ; 12.3,0.5 12.3,2.5
  lines w0.254: -8.5,-1.9 -7.5,-1.9 ; -8.5,-1.9 -10.57,-1.9 -11.5,-1.9 -11.5,-2.47 -12.3,-2.47 -12.575,-2.47 -12.575,4.9 -12.3,4.9 -10.57,4.9 -0.7,4.9 ; -8.5,-1.9 -8.5,-2.5 -7.5,-2.5 -7.5,-1.9 ; -7.5,-1.9 7.5,-1.9 ; -0.7,4.9 0.7,4.9 ; -0.7,4.9 -0.7,6.3 0.7,6.3 0.7,4.9 ; 0.7,4.9 10.57,4.9 12.3,4.9 12.575,4.9 12.575,-2.47 12.3,-2.47 11.5,-2.47 11.5,-1.9 10.57,-1.9 8.5,-1.9 ; 7.5,-1.9 8.5,-1.9 ; 7.5,-1.9 7.5,-2.5 8.5,-2.5 8.5,-1.9 ; -10.27,-0.762 -10.27,1.27 -7.73,1.27 -7.73,-1.27 -9.762,-1.27 -10.27,-0.762 ; -10.27,2.238 -10.27,4.27 -7.73,4.27 -7.73,1.73 -9.762,1.73 -10.27,2.238 ; -7.27,-0.762 -7.27,1.27 -4.73,1.27 -4.73,-1.27 -6.762,-1.27 -7.27,-0.762 ; -7.27,2.238 -7.27,4.27 -4.73,4.27 -4.73,1.73 -6.762,1.73 -7.27,2.238 ; -4.27,-0.762 -4.27,1.27 -1.73,1.27 -1.73,-1.27 -3.762,-1.27 -4.27,-0.762 ; -4.27,2.238 -4.27,4.27 -1.73,4.27 -1.73,1.73 -3.762,1.73 -4.27,2.238 ; -1.27,-0.762 -1.27,1.27 1.27,1.27 1.27,-1.27 -0.762,-1.27 -1.27,-0.762 ; -1.27,2.238 -1.27,4.27 1.27,4.27 1.27,1.73 -0.762,1.73 -1.27,2.238 ; 1.73,-0.762 1.73,1.27 4.27,1.27 4.27,-1.27 2.238,-1.27 1.73,-0.762 ; 1.73,2.238 1.73,4.27 4.27,4.27 4.27,1.73 2.238,1.73 1.73,2.238 ; 4.73,-0.762 4.73,1.27 7.27,1.27 7.27,-1.27 5.238,-1.27 4.73,-0.762 ; 4.73,2.238 4.73,4.27 7.27,4.27 7.27,1.73 5.238,1.73 4.73,2.238 ; 7.73,-0.762 7.73,1.27 10.27,1.27 10.27,-1.27 8.238,-1.27 7.73,-0.762
Mechanical 23:
  lines w0.254: 7.73,1.73 7.73,4.27 10.27,4.27 10.27,2.238 9.762,1.73 7.73,1.73

## 44914-1601 [mm]
pads (18):
  round 1.02 hole 1.02 unplated: 1(-13.5,3.94) 1(13.5,3.94)
  rect 1.583x1.583 / inner rect 1.524x1.524 / far side rect 1.583x1.583 hole 1.09: P$1(10.5,0)
  round 1.635 / inner round 1.524 / far side round 1.635 hole 1.09: P$2(7.5,0) P$3(4.5,0) P$4(1.5,0) P$5(-1.5,0) P$6(-4.5,0) P$7(-7.5,0) P$8(-10.5,0) P$9(10.5,3) P$10(7.5,3) P$11(4.5,3) P$12(1.5,3) P$13(-1.5,3) P$14(-4.5,3) P$15(-7.5,3) P$16(-10.5,3)
Mechanical 22:
  lines w0.2: -13.8,-2.47 -13.8,0.5 ; -13.8,4.9 -13.8,2.5 ; -12.07,-1.9 -12.07,0.5 ; -12.07,4.9 -12.07,2.5 ; 12.07,-1.9 12.07,0.5 ; 12.07,4.9 12.07,2.5 ; 13.8,-2.47 13.8,0.5 ; 13.8,4.9 13.8,2.5 ; -13.8,0.5 -13.8,2.5 ; -13.8,0.5 -12.7,0.5 ; -13.8,2.5 -12.7,2.5 ; -12.7,0.5 -12.07,0.5 ; -12.7,0.5 -12.7,1 -13,1 -13,2 -12.7,2 -12.7,2.5 ; -12.7,2.5 -12.07,2.5 ; -12.07,0.5 -12.07,2.5 ; 12.07,0.5 12.07,2.5 ; 12.07,0.5 12.7,0.5 ; 12.07,2.5 12.7,2.5 ; 12.7,0.5 13.8,0.5 ; 12.7,0.5 12.7,1 13,1 13,2 12.7,2 12.7,2.5 ; 12.7,2.5 13.8,2.5 ; 13.8,0.5 13.8,2.5
  lines w0.254: -10,-1.9 -9,-1.9 ; -10,-1.9 -12.07,-1.9 -13,-1.9 -13,-2.47 -13.8,-2.47 -14.075,-2.47 -14.075,4.9 -13.8,4.9 -12.07,4.9 -0.7,4.9 ; -10,-1.9 -10,-2.5 -9,-2.5 -9,-1.9 ; -9,-1.9 9,-1.9 ; -0.7,4.9 0.7,4.9 ; -0.7,4.9 -0.7,6.3 0.7,6.3 0.7,4.9 ; 0.7,4.9 12.07,4.9 13.8,4.9 14.075,4.9 14.075,-2.47 13.8,-2.47 13,-2.47 13,-1.9 12.07,-1.9 10,-1.9 ; 9,-1.9 10,-1.9 ; 9,-1.9 9,-2.5 10,-2.5 10,-1.9 ; -11.77,-0.762 -11.77,1.27 -9.23,1.27 -9.23,-1.27 -11.262,-1.27 -11.77,-0.762 ; -11.77,2.238 -11.77,4.27 -9.23,4.27 -9.23,1.73 -11.262,1.73 -11.77,2.238 ; -8.77,-0.762 -8.77,1.27 -6.23,1.27 -6.23,-1.27 -8.262,-1.27 -8.77,-0.762 ; -8.77,2.238 -8.77,4.27 -6.23,4.27 -6.23,1.73 -8.262,1.73 -8.77,2.238 ; -5.77,-0.762 -5.77,1.27 -3.23,1.27 -3.23,-1.27 -5.262,-1.27 -5.77,-0.762 ; -5.77,2.238 -5.77,4.27 -3.23,4.27 -3.23,1.73 -5.262,1.73 -5.77,2.238 ; -2.77,-0.762 -2.77,1.27 -0.23,1.27 -0.23,-1.27 -2.262,-1.27 -2.77,-0.762 ; -2.77,2.238 -2.77,4.27 -0.23,4.27 -0.23,1.73 -2.262,1.73 -2.77,2.238 ; 0.23,-0.762 0.23,1.27 2.77,1.27 2.77,-1.27 0.738,-1.27 0.23,-0.762 ; 0.23,2.238 0.23,4.27 2.77,4.27 2.77,1.73 0.738,1.73 0.23,2.238 ; 3.23,-0.762 3.23,1.27 5.77,1.27 5.77,-1.27 3.738,-1.27 3.23,-0.762 ; 3.23,2.238 3.23,4.27 5.77,4.27 5.77,1.73 3.738,1.73 3.23,2.238 ; 6.23,-0.762 6.23,1.27 8.77,1.27 8.77,-1.27 6.738,-1.27 6.23,-0.762 ; 6.23,2.238 6.23,4.27 8.77,4.27 8.77,1.73 6.738,1.73 6.23,2.238 ; 9.23,-0.762 9.23,1.27 11.77,1.27 11.77,-1.27 9.738,-1.27 9.23,-0.762
Mechanical 23:
  lines w0.254: 9.23,1.73 9.23,4.27 11.77,4.27 11.77,2.238 11.262,1.73 9.23,1.73

## 44914-1801 [mm]
pads (20):
  round 1.02 hole 1.02 unplated: 1(-15,3.94) 1(15,3.94)
  rect 1.583x1.583 / inner rect 1.524x1.524 / far side rect 1.583x1.583 hole 1.09: P$1(12,0)
  round 1.635 / inner round 1.524 / far side round 1.635 hole 1.09: P$2(9,0) P$3(6,0) P$4(3,0) P$5(0,0) P$6(-3,0) P$7(-6,0) P$8(-9,0) P$9(-12,0) P$10(12,3) P$11(9,3) P$12(6,3) P$13(3,3) P$14(0,3) P$15(-3,3) P$16(-6,3) P$17(-9,3) P$18(-12,3)
Mechanical 22:
  lines w0.2: -15.3,-2.47 -15.3,0.5 ; -15.3,4.9 -15.3,2.5 ; -13.57,-1.9 -13.57,0.5 ; -13.57,4.9 -13.57,2.5 ; 13.57,-1.9 13.57,0.5 ; 13.57,4.9 13.57,2.5 ; 15.3,-2.47 15.3,0.5 ; 15.3,4.9 15.3,2.5 ; -15.3,0.5 -15.3,2.5 ; -15.3,0.5 -14.2,0.5 ; -15.3,2.5 -14.2,2.5 ; -14.2,0.5 -13.57,0.5 ; -14.2,0.5 -14.2,1 -14.5,1 -14.5,2 -14.2,2 -14.2,2.5 ; -14.2,2.5 -13.57,2.5 ; -13.57,0.5 -13.57,2.5 ; 13.57,0.5 13.57,2.5 ; 13.57,0.5 14.2,0.5 ; 13.57,2.5 14.2,2.5 ; 14.2,0.5 15.3,0.5 ; 14.2,0.5 14.2,1 14.5,1 14.5,2 14.2,2 14.2,2.5 ; 14.2,2.5 15.3,2.5 ; 15.3,0.5 15.3,2.5
  lines w0.254: -11.5,-1.9 -10.5,-1.9 ; -11.5,-1.9 -13.57,-1.9 -14.5,-1.9 -14.5,-2.47 -15.3,-2.47 -15.575,-2.47 -15.575,4.9 -15.3,4.9 -13.57,4.9 -0.7,4.9 ; -11.5,-1.9 -11.5,-2.5 -10.5,-2.5 -10.5,-1.9 ; -10.5,-1.9 10.5,-1.9 ; -0.7,4.9 0.7,4.9 ; -0.7,4.9 -0.7,6.3 0.7,6.3 0.7,4.9 ; 0.7,4.9 13.57,4.9 15.3,4.9 15.575,4.9 15.575,-2.47 15.3,-2.47 14.5,-2.47 14.5,-1.9 13.57,-1.9 11.5,-1.9 ; 10.5,-1.9 11.5,-1.9 ; 10.5,-1.9 10.5,-2.5 11.5,-2.5 11.5,-1.9 ; -13.27,-0.762 -13.27,1.27 -10.73,1.27 -10.73,-1.27 -12.762,-1.27 -13.27,-0.762 ; -13.27,2.238 -13.27,4.27 -10.73,4.27 -10.73,1.73 -12.762,1.73 -13.27,2.238 ; -10.27,-0.762 -10.27,1.27 -7.73,1.27 -7.73,-1.27 -9.762,-1.27 -10.27,-0.762 ; -10.27,2.238 -10.27,4.27 -7.73,4.27 -7.73,1.73 -9.762,1.73 -10.27,2.238 ; -7.27,-0.762 -7.27,1.27 -4.73,1.27 -4.73,-1.27 -6.762,-1.27 -7.27,-0.762 ; -7.27,2.238 -7.27,4.27 -4.73,4.27 -4.73,1.73 -6.762,1.73 -7.27,2.238 ; -4.27,-0.762 -4.27,1.27 -1.73,1.27 -1.73,-1.27 -3.762,-1.27 -4.27,-0.762 ; -4.27,2.238 -4.27,4.27 -1.73,4.27 -1.73,1.73 -3.762,1.73 -4.27,2.238 ; -1.27,-0.762 -1.27,1.27 1.27,1.27 1.27,-1.27 -0.762,-1.27 -1.27,-0.762 ; -1.27,2.238 -1.27,4.27 1.27,4.27 1.27,1.73 -0.762,1.73 -1.27,2.238 ; 1.73,-0.762 1.73,1.27 4.27,1.27 4.27,-1.27 2.238,-1.27 1.73,-0.762 ; 1.73,2.238 1.73,4.27 4.27,4.27 4.27,1.73 2.238,1.73 1.73,2.238 ; 4.73,-0.762 4.73,1.27 7.27,1.27 7.27,-1.27 5.238,-1.27 4.73,-0.762 ; 4.73,2.238 4.73,4.27 7.27,4.27 7.27,1.73 5.238,1.73 4.73,2.238 ; 7.73,-0.762 7.73,1.27 10.27,1.27 10.27,-1.27 8.238,-1.27 7.73,-0.762 ; 7.73,2.238 7.73,4.27 10.27,4.27 10.27,1.73 8.238,1.73 7.73,2.238 ; 10.73,-0.762 10.73,1.27 13.27,1.27 13.27,-1.27 11.238,-1.27 10.73,-0.762
Mechanical 23:
  lines w0.254: 10.73,1.73 10.73,4.27 13.27,4.27 13.27,2.238 12.762,1.73 10.73,1.73

## 44914-2001 [mm]
pads (22):
  round 1.02 hole 1.02 unplated: 1(-16.5,3.94) 1(16.5,3.94)
  rect 1.583x1.583 / inner rect 1.524x1.524 / far side rect 1.583x1.583 hole 1.09: P$1(13.5,0)
  round 1.635 / inner round 1.524 / far side round 1.635 hole 1.09: P$2(10.5,0) P$3(7.5,0) P$4(4.5,0) P$5(1.5,0) P$6(-1.5,0) P$7(-4.5,0) P$8(-7.5,0) P$9(-10.5,0) P$10(-13.5,0) P$11(13.5,3) P$12(10.5,3) P$13(7.5,3) P$14(4.5,3) P$15(1.5,3) P$16(-1.5,3) P$17(-4.5,3) P$18(-7.5,3) P$19(-10.5,3) P$20(-13.5,3)
Mechanical 22:
  drawing of 156 lines, arcs and shapes, not listed
Mechanical 23:
  lines w0.254: 12.23,1.73 12.23,4.27 14.77,4.27 14.77,2.238 14.262,1.73 12.23,1.73